# EAGLE library part MT6-6 (library con-amp-mt)
AMP MT6 CONNECTOR
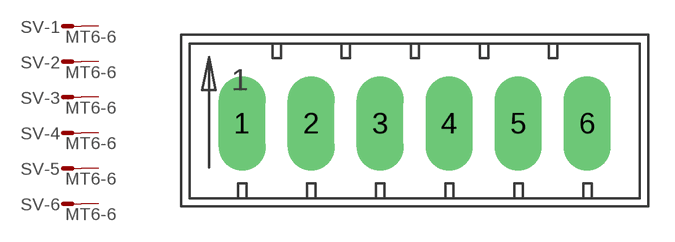
[diagram p30: symbol with the pads of MT6-6; footprint MT6-6]

Designator prefix SV; gates -1=MA -2=MA -3=MA -4=MA -5=MA -6=MA

## MT6-6 (OC_FARNELL: unknown; OC_NEWARK: unknown)  [MT6-6]
1  -1:S  pas
2  -2:S  pas
3  -3:S  pas
4  -4:S  pas
5  -5:S  pas
6  -6:S  pas

## Footprint MT6-6 (pad centres in mm)
AMP MT6 CONNECTOR
drill 1.803 long: 1 -9.906,0; 2 -5.944,0; 3 -1.981,0; 4 1.981,0; 5 5.944,0; 6 9.906,0